# Altium schematic symbol library module.SchLib: 1 symbol
Pins are listed as number, name and electrical type; pins without a type are passive.

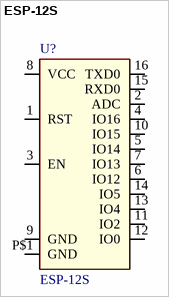
[diagram p0: symbol ESP-12S]

## ESP-12S
designator U?
WiFi 802.11b/g/n Transceiver Module 2.412GHz ~ 2.484GHz PCB Trace Surface Mount; Manufacturer: RF Solutions; Price: None; Availability: Unavailable; PartNumber: ESP-12S; SnapEDA_Link: https://www.snapeda.com/parts/ESP-12S/RF%20Solutions/view-part/3210766/?ref=snap; Value: *; Package: Module RF Solutions
footprint ESP-12S_ESP-12S(Primary)
pins: 1 RST, 2 ADC, 3 EN, 4 IO16, 5 IO14, 6 IO12, 7 IO13, 8 VCC, 9 GND, 10 IO15, 11 IO2, 12 IO0, 13 IO4, 14 IO5, 15 RXD0, 16 TXD0, P$1 GND